# EAGLE library part VC_10_1_18 (library VC_10_1_18)
18V ac 1 Output Through Hole PCB Transformer, 10VA Source: Datasheet <https://componentsearchengine.com/Datasheets/2/VC 10_1_18.pdf>
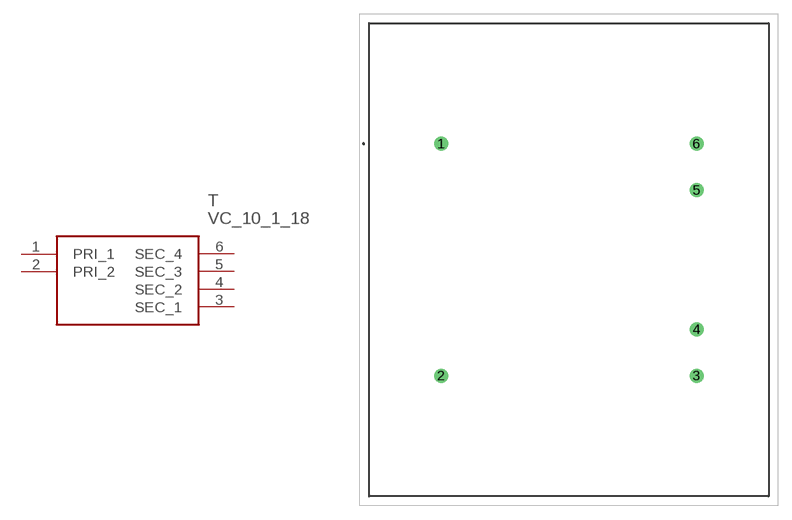
[diagram p0: symbol with the pads of VC10118; footprint VC10118]

Designator prefix T

## VC_10_1_18 (Description: 18V ac 1 Output Through Hole PCB Transformer, 10VA; Height: 34.6mm; Manufacturer_Name: BLOCK; Manufacturer_Part_Number: VC 10/1/18)  [VC10118]
1  PRI_1
2  PRI_2
3  SEC_1
4  SEC_2
5  SEC_3
6  SEC_4

## Footprint VC10118 (pad centres in mm)
VC 10/1/18-2
drill 1 pad 1.5: 1 0,0; 2 0,-25; 3 27.5,-25; 4 27.5,-20; 5 27.5,-5; 6 27.5,0